# EAGLE library part AK4430ET (library AK4430ET)
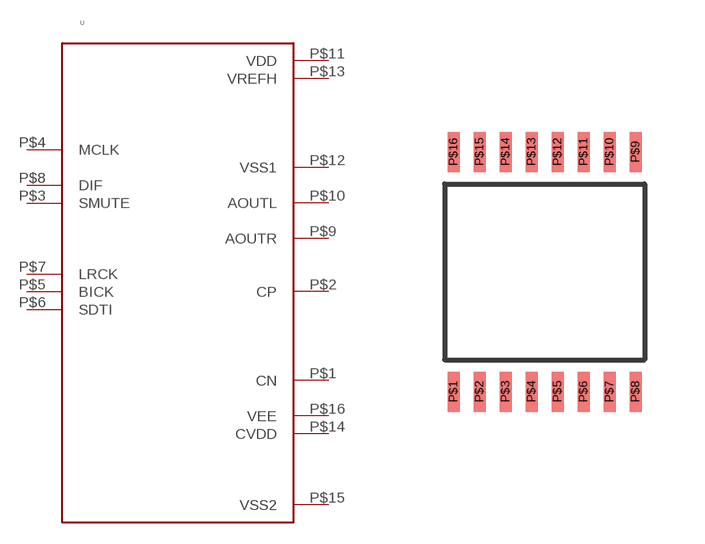
[diagram p0: symbol with the pads of 16TSSOP; footprint 16TSSOP]

Designator prefix -

## AK4430ET  [16TSSOP]
P$1  CN
P$2  CP
P$3  SMUTE
P$4  MCLK
P$5  BICK
P$6  SDTI
P$7  LRCK
P$8  DIF
P$9  AOUTR
P$10  AOUTL
P$11  VDD
P$12  VSS1
P$13  VREFH
P$14  CVDD
P$15  VSS2
P$16  VEE

## Footprint 16TSSOP (pad centres in mm)
smd 0.3 x 1: P$1 -2.275,-3; P$2 -1.625,-3; P$3 -0.975,-3; P$4 -0.325,-3; P$5 0.325,-3; P$6 0.975,-3; P$7 1.625,-3; P$8 2.275,-3; P$9 2.275,3; P$10 1.625,3; P$11 0.975,3; P$12 0.325,3; P$13 -0.325,3; P$14 -0.975,3; P$15 -1.625,3; P$16 -2.275,3